# Altium footprint library RESCAV_380X310-3L.PcbLib: 1 footprints
Each footprint in its own frame and in the unit in brackets; x right, y up, seen from the top. Pads: shape width x height; smd on the part's side, far side on the other; paste and mask are expansions set on the pad; w line width, h text height; cw(c..) or ccw(c..) is an arc to the next point about the centre after c.
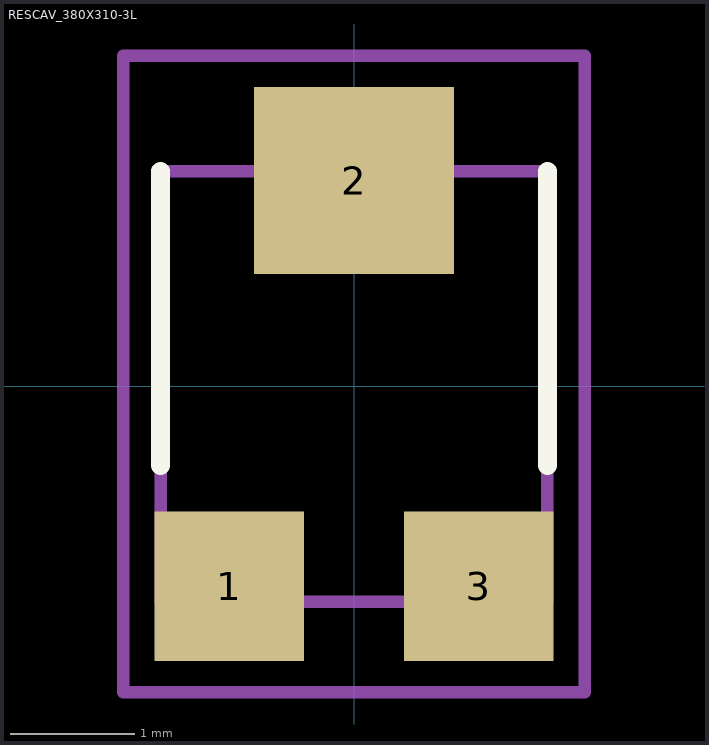
[diagram p0: the footprint, top view; thin cyan lines are the x and y axes]

## RESCAV_380X310-3L [mm] "Boday3.8X3.1mm High1.62mm"
height 1.62
pads (3):
  rect 1.2x1.2 smd: 1(-1,-1.6) 3(1,-1.6)
  rect 1.6x1.5 smd: 2(0,1.65)
Top Overlay:
  lines w0.152: -1.55,-0.635 -1.55,1.725 ; 1.55,-0.635 1.55,1.725
Mechanical 13:
  lines w0.1: -1.55,-1.725 1.55,-1.725 1.55,1.725 -1.55,1.725 -1.55,-1.725
Mechanical 15:
  lines w0.1: -1.85,-2.45 -1.85,2.65 1.85,2.65 1.85,-2.45 -1.85,-2.45
3D body: height 1.52, standoff -0.01, extent -1.55,-2.023 1.55,2.177